# Altium footprint library 2019-09-29_07-03-14.PcbLib: 3 footprints
Each footprint in its own frame and in the unit in brackets; x right, y up, seen from the top. Pads: shape width x height; smd on the part's side, far side on the other; paste and mask are expansions set on the pad; w line width, h text height; cw(c..) or ccw(c..) is an arc to the next point about the centre after c.
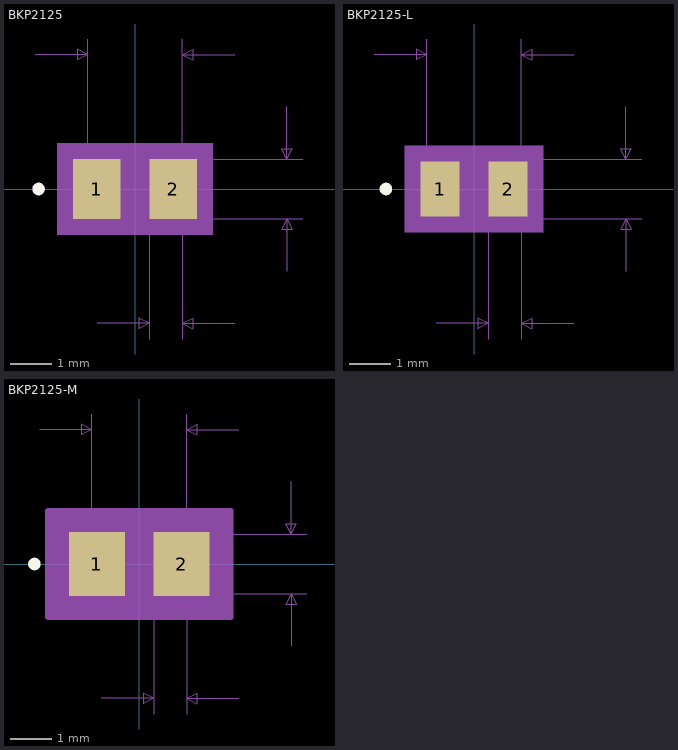
[diagram p0: the footprints below, top view; thin cyan lines are the x and y axes]

## BKP2125 [mm]
pads (2):
  rect 1.156x1.45 smd paste+0 mask+0: 1(-0.928,0) 2(0.928,0)
Top Overlay:
  circle w0.152: c-2.344,0 r0.076
Mechanical 5:
  region: 1.887,-1.106 -1.887,-1.106 -1.887,1.106 1.887,1.106
Mechanical 7:
  lines w0.025: -2.42,3.265 -1.15,3.265 ; -1.15,0 -1.15,3.646 ; -0.92,-3.265 0.35,-3.265 ; 0,-0.725 4.071,-0.725 ; 0,0.725 4.071,0.725 ; 0.35,-3.646 0.35,0 ; 1.15,-3.646 1.15,0 1.15,3.646 ; 2.42,-3.265 1.15,-3.265 ; 2.42,3.265 1.15,3.265 ; 3.69,-1.995 3.69,-0.725 ; 3.69,1.995 3.69,0.725 ; -1.15,3.265 -1.404,3.392 -1.404,3.138 -1.15,3.265 ; 0.35,-3.265 0.096,-3.138 0.096,-3.392 0.35,-3.265 ; 1.15,-3.265 1.404,-3.138 1.404,-3.392 1.15,-3.265 ; 1.15,3.265 1.404,3.392 1.404,3.138 1.15,3.265 ; 3.69,-0.725 3.563,-0.979 3.817,-0.979 3.69,-0.725 ; 3.69,0.725 3.563,0.979 3.817,0.979 3.69,0.725
  text "Default Padstyle: RX45p5Y57p09D0T" at -10.477,-7.583 h1.27
  text "Alternate 1 Padstyle: OX60Y90D30P" at -10.477,-10.123 h1.27
  text "Alternate 2 Padstyle: OX90Y60D30P" at -10.477,-12.663 h1.27
  text "0.057in/1.45mm" at 4.198,-0.318 h0.64
  text "0.091in/2.3mm" at -2.064,3.773 h0.64
  text "0.031in/0.8mm" at -1.314,-4.408 h0.64
Mechanical 13:
  circle w0: c-0.801,0 r0.076
  lines w0.025: -1.15,-0.725 -1.15,0.725 ; -1.15,-0.725 -0.35,-0.725 -0.35,0.725 -1.15,0.725 ; -1.15,-0.725 1.15,-0.725 ; -1.15,-0.725 -1.15,0.725 ; -1.15,0.725 1.15,0.725 ; 1.15,-0.725 0.35,-0.725 0.35,0.725 1.15,0.725 ; 1.15,-0.725 1.15,0.725 ; 1.15,-0.725 1.15,0.725
Mechanical 15:
  region: 1.76,-0.979 -1.76,-0.979 -1.76,0.979 1.76,0.979
  lines w0.152: -1.76,-0.979 -1.76,0.979 1.76,0.979 1.76,-0.979 -1.76,-0.979
3D body: height 0.25, standoff 0, extent 0,0 0.254,0.254

## BKP2125-L [mm]
pads (2):
  rect 0.952x1.348 smd paste+0 mask+0: 1(-0.826,0) 2(0.826,0)
Top Overlay:
  circle w0.152: c-2.141,0 r0.076
Mechanical 5:
  region: 1.683,-1.055 -1.683,-1.055 -1.683,1.055 1.683,1.055
Mechanical 7:
  lines w0.025: -2.42,3.265 -1.15,3.265 ; -1.15,0 -1.15,3.646 ; -0.92,-3.265 0.35,-3.265 ; 0,-0.725 4.071,-0.725 ; 0,0.725 4.071,0.725 ; 0.35,-3.646 0.35,0 ; 1.15,-3.646 1.15,0 1.15,3.646 ; 2.42,-3.265 1.15,-3.265 ; 2.42,3.265 1.15,3.265 ; 3.69,-1.995 3.69,-0.725 ; 3.69,1.995 3.69,0.725 ; -1.15,3.265 -1.404,3.392 -1.404,3.138 -1.15,3.265 ; 0.35,-3.265 0.096,-3.138 0.096,-3.392 0.35,-3.265 ; 1.15,-3.265 1.404,-3.138 1.404,-3.392 1.15,-3.265 ; 1.15,3.265 1.404,3.392 1.404,3.138 1.15,3.265 ; 3.69,-0.725 3.563,-0.979 3.817,-0.979 3.69,-0.725 ; 3.69,0.725 3.563,0.979 3.817,0.979 3.69,0.725
  text "Default Padstyle: RX37p5Y53p09D0T" at -10.477,-7.532 h1.27
  text "Alternate 1 Padstyle: OX60Y90D30P" at -10.477,-10.072 h1.27
  text "Alternate 2 Padstyle: OX90Y60D30P" at -10.477,-12.612 h1.27
  text "0.057in/1.45mm" at 4.198,-0.318 h0.64
  text "0.091in/2.3mm" at -2.064,3.773 h0.64
  text "0.031in/0.8mm" at -1.314,-4.408 h0.64
Mechanical 13:
  circle w0: c-0.699,0 r0.076
  lines w0.025: -1.15,-0.725 -1.15,0.725 ; -1.15,-0.725 -0.35,-0.725 -0.35,0.725 -1.15,0.725 ; -1.15,-0.725 1.15,-0.725 ; -1.15,-0.725 -1.15,0.725 ; -1.15,0.725 1.15,0.725 ; 1.15,-0.725 0.35,-0.725 0.35,0.725 1.15,0.725 ; 1.15,-0.725 1.15,0.725 ; 1.15,-0.725 1.15,0.725
Mechanical 15:
  region: 1.404,-0.776 -1.404,-0.776 -1.404,0.776 1.404,0.776
  lines w0.152: -1.404,-0.776 -1.404,0.776 1.404,0.776 1.404,-0.776 -1.404,-0.776
3D body: height 0.25, standoff 0, extent 0,0 0.254,0.254

## BKP2125-M [mm]
pads (2):
  rect 1.359x1.552 smd paste+0 mask+0: 1(-1.029,0) 2(1.029,0)
Top Overlay:
  circle w0.152: c-2.547,0 r0.076
Mechanical 5:
  region: 2.09,-1.157 -2.09,-1.157 -2.09,1.157 2.09,1.157
Mechanical 7:
  lines w0.025: -2.42,3.265 -1.15,3.265 ; -1.15,0 -1.15,3.646 ; -0.92,-3.265 0.35,-3.265 ; 0,-0.725 4.071,-0.725 ; 0,0.725 4.071,0.725 ; 0.35,-3.646 0.35,0 ; 1.15,-3.646 1.15,0 1.15,3.646 ; 2.42,-3.265 1.15,-3.265 ; 2.42,3.265 1.15,3.265 ; 3.69,-1.995 3.69,-0.725 ; 3.69,1.995 3.69,0.725 ; -1.15,3.265 -1.404,3.392 -1.404,3.138 -1.15,3.265 ; 0.35,-3.265 0.096,-3.138 0.096,-3.392 0.35,-3.265 ; 1.15,-3.265 1.404,-3.138 1.404,-3.392 1.15,-3.265 ; 1.15,3.265 1.404,3.392 1.404,3.138 1.15,3.265 ; 3.69,-0.725 3.563,-0.979 3.817,-0.979 3.69,-0.725 ; 3.69,0.725 3.563,0.979 3.817,0.979 3.69,0.725
  text "Default Padstyle: RX53p5Y61p09D0T" at -10.477,-7.634 h1.27
  text "Alternate 1 Padstyle: OX60Y90D30P" at -10.477,-10.174 h1.27
  text "Alternate 2 Padstyle: OX90Y60D30P" at -10.477,-12.714 h1.27
  text "0.057in/1.45mm" at 4.198,-0.318 h0.64
  text "0.091in/2.3mm" at -2.064,3.773 h0.64
  text "0.031in/0.8mm" at -1.314,-4.408 h0.64
Mechanical 13:
  circle w0: c-0.902,0 r0.076
  lines w0.025: -1.15,-0.725 -1.15,0.725 ; -1.15,-0.725 -0.35,-0.725 -0.35,0.725 -1.15,0.725 ; -1.15,-0.725 1.15,-0.725 ; -1.15,-0.725 -1.15,0.725 ; -1.15,0.725 1.15,0.725 ; 1.15,-0.725 0.35,-0.725 0.35,0.725 1.15,0.725 ; 1.15,-0.725 1.15,0.725 ; 1.15,-0.725 1.15,0.725
Mechanical 15:
  region: 2.217,-1.284 -2.217,-1.284 -2.217,1.284 2.217,1.284
  lines w0.152: -2.217,-1.284 -2.217,1.284 2.217,1.284 2.217,-1.284 -2.217,-1.284
3D body: height 0.25, standoff 0, extent 0,0 0.254,0.254